# Altium footprint library 电调.PcbLib: 3 footprints
Each footprint in its own frame and in the unit in brackets; x right, y up, seen from the top. Pads: shape width x height; smd on the part's side, far side on the other; paste and mask are expansions set on the pad; w line width, h text height; cw(c..) or ccw(c..) is an arc to the next point about the centre after c.
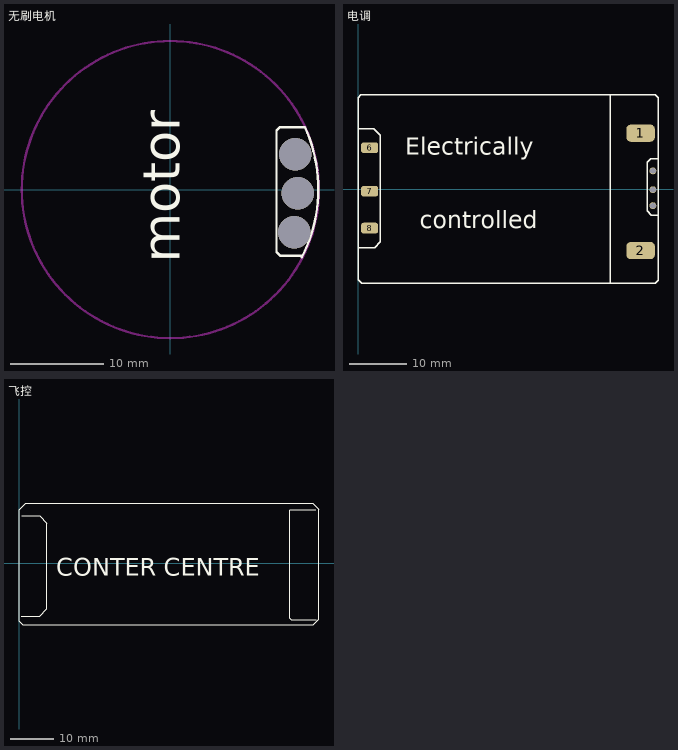
[diagram p0: the footprints below, top view; thin cyan lines are the x and y axes]

## 无刷电机 [mm]
via 13.462,3.81 diameter 3.5 hole 3.5
via 13.716,-0.381 diameter 3.5 hole 3.5
via 13.335,-4.572 diameter 3.5 hole 3.5
Top Overlay:
  lines w0.254: 14.133,-7.315 ccw(c-0.191,0.064) 14.478,6.731 11.811,6.731 11.43,6.35 11.43,-6.731 11.811,-7.112 14.224,-7.112
  text "motor" at 1.016,-7.874 h4
Keep-Out Layer:
  circle w0.254: c0,0 r16.003

## 电调 [mm]
pads (8):
  rrect50% 5x3 all layers, no hole: 1(49.53,9.779) 2(49.53,-10.795)
  round 1.2 hole 1: 3(51.689,3.175) 4(51.689,-0.127) 5(51.689,-2.921)
  rrect50% 3x1.9 all layers, no hole: 6(2.032,7.239) 7(2.032,-0.381) 8(2.032,-6.858)
Top Overlay:
  lines w0.254: 0,-10.287 2.921,-10.287 3.937,-9.271 3.937,-7.366 3.937,9.398 2.794,10.541 0,10.541 ; 44.196,-16.383 44.196,16.383 44.323,16.51 ; 52.451,-4.572 51.435,-4.572 50.673,-3.81 50.673,4.699 51.308,5.334 52.578,5.334 ; 0,-15.875 0.635,-16.51 52.07,-16.51 52.578,-16.002 52.578,16.002 52.07,16.51 0.508,16.51 0,16.002 0,0 0,-15.875
  text "Electrically" at 8.255,5.969 h3
  text "controlled" at 10.795,-6.858 h3

## 飞控 [mm]
Top Overlay:
  lines w0.254: 0,-0.127 0,12.192 1.524,13.716 67.056,13.716 68.453,12.319 68.453,-12.827 67.183,-14.097 0.889,-14.097 0,-13.208 0,0 ; 0.508,-12.065 1.556,-12.065 3.651,-12.065 4.699,-12.065 6.35,-10.414 6.35,9.144 4.699,10.795 0.635,10.795 ; 67.691,12.192 61.849,12.192 61.722,12.065 61.722,-12.573 62.103,-12.954 67.818,-12.954
  text "CONTER CENTRE" at 8.509,-2.921 h4